# EAGLE library part CONN_JUPITER_GPS_2MM_HEADER (library psas)
Pin Header for "Jupiter" OEM GPS board
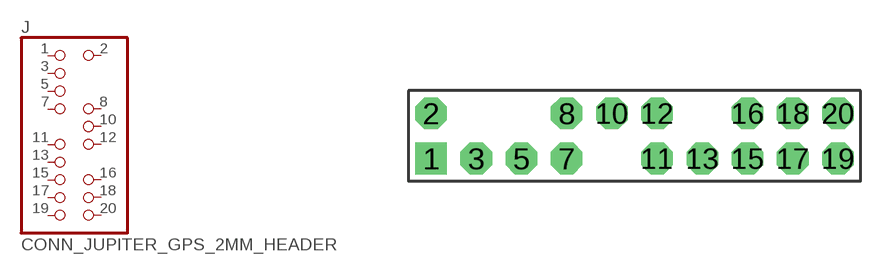
[diagram p4: symbol with the pads of GPS2MM2X10HEADER; footprint GPS2MM2X10HEADER]

Designator prefix J

## CONN_JUPITER_GPS_2MM_HEADERTH  [GPS2MM2X10HEADER]
1  1  pas
2  2  pas
3  3  pas
5  5  pas
7  7  pas
8  8  pas
10  10  pas
11  11  pas
12  12  pas
13  13  pas
15  15  pas
16  16  pas
17  17  pas
18  18  pas
19  19  pas
20  20  pas

## Footprint GPS2MM2X10HEADER (pad centres in mm)
"Jupiter" GPS Board connector pattern
drill 0.889 square: 1 -9,-1
drill 0.889 octagon: 2 -9,1; 3 -7,-1; 5 -5,-1; 7 -3,-1; 8 -3,1; 10 -1,1; 11 1,-1; 12 1,1; 13 3,-1; 15 5,-1; 16 5,1; 17 7,-1; 18 7,1; 19 9,-1; 20 9,1